# EAGLE library part 74HC243 (library parts)
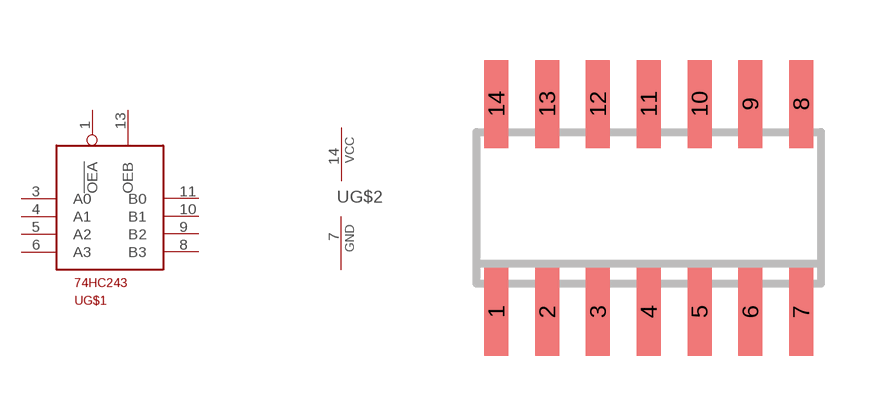
[diagram p9: symbol with the pads of SO14; footprint SO14]

Designator prefix -; gates G$1=74HC243 G$2=PWRN

## 74HC243D  [SO14]
1  G$1:!OEA
3  G$1:A0
4  G$1:A1
5  G$1:A2
6  G$1:A3
7  G$2:GND  pwr
8  G$1:B3
9  G$1:B2
10  G$1:B1
11  G$1:B0
13  G$1:OEB
14  G$2:VCC  pwr

## Footprint SO14 (pad centres in mm)
SMALL OUTLINE INTEGRATED CIRCUIT body 3.9 mm/JEDEC MS-012AC
smd 0.6 x 2.2: 1 -3.81,-2.6; 2 -2.54,-2.6; 3 -1.27,-2.6; 4 0,-2.6; 5 1.27,-2.6; 6 2.54,-2.6; 7 3.81,-2.6; 8 3.81,2.6; 9 2.54,2.6; 10 1.27,2.6; 11 0,2.6; 12 -1.27,2.6; 13 -2.54,2.6; 14 -3.81,2.6